# Altium footprint library Thunder-Refix.PcbLib: 28 footprints (part 1 of 2)
Each footprint in its own frame and in the unit in brackets; x right, y up, seen from the top. Pads: shape width x height; smd on the part's side, far side on the other; paste and mask are expansions set on the pad; w line width, h text height; cw(c..) or ccw(c..) is an arc to the next point about the centre after c.
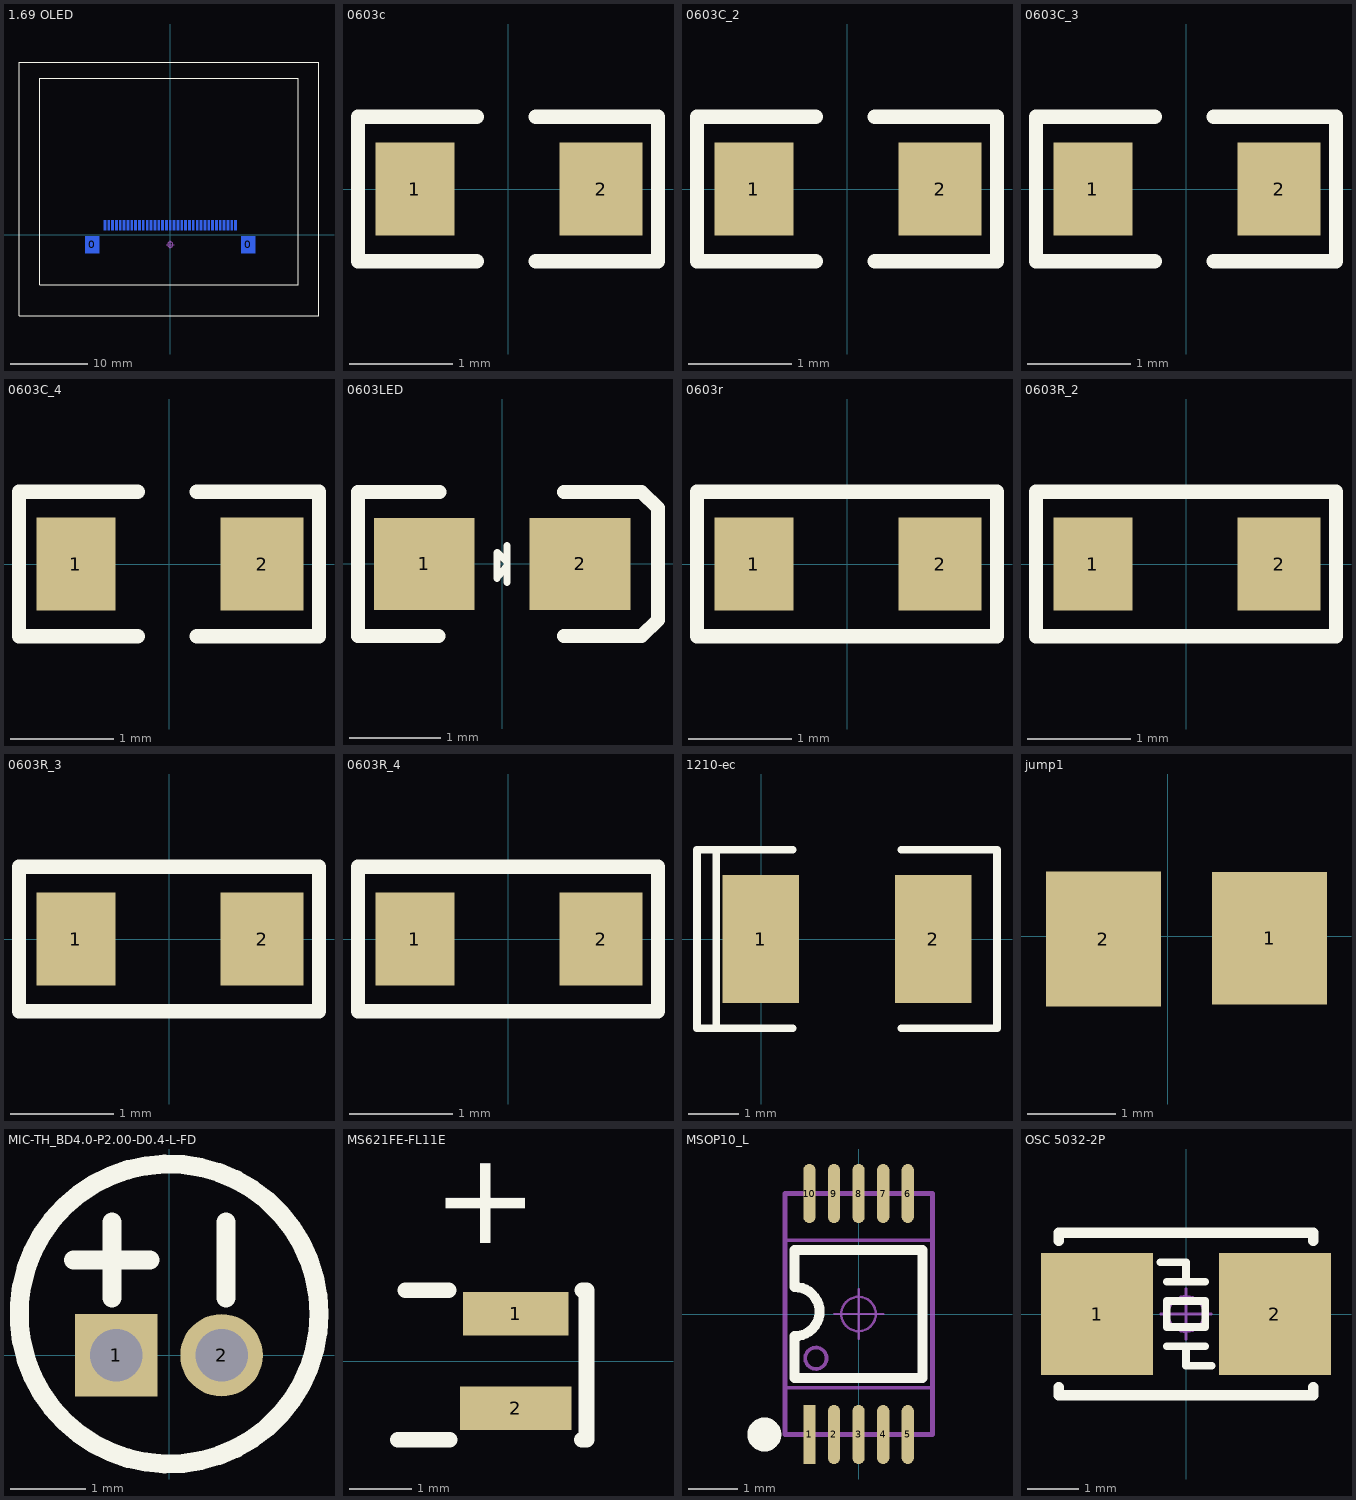
[diagram p0: the footprints below, top view; thin cyan lines are the x and y axes]

## 1.69 OLED [mm]
height 1
pads (37):
  rect 1.8x2.2 smd far side: 0(-10.15,-1.248) 0(10.15,-1.248)
  rect 0.3x1.3 smd far side: 1(-8.5,1.248) 2(-8,1.248) 3(-7.5,1.248) 4(-7,1.248) 5(-6.5,1.248) 6(-6,1.248) 7(-5.5,1.248) 8(-5,1.248) 9(-4.5,1.248) 10(-4,1.248) 11(-3.5,1.248) 12(-3,1.248) 13(-2.5,1.248) 14(-2,1.248) 15(-1.5,1.248) 16(-1,1.248) 17(-0.5,1.248) 18(0,1.248) 19(0.5,1.248) 20(1,1.248) 21(1.5,1.248) 22(2,1.248) 23(2.5,1.248) 24(3,1.248) 25(3.5,1.248) 26(4,1.248) 27(4.5,1.248) 28(5,1.248) 29(5.5,1.248) 30(6,1.248) 31(6.5,1.248) 32(7,1.248) 33(7.5,1.248) 34(8,1.248) 35(8.5,1.248)
Top Overlay:
  lines w0.152: -19.664,-10.522 19.336,-10.522 19.336,22.478 -19.664,22.478 -19.664,-10.522 ; -16.954,-6.478 -16.954,20.386 16.626,20.386 16.626,-6.478 -16.954,-6.478
Bottom Overlay:
  circle w0.5: c-9.334,1.93 r0.18
  lines w0.2: -10.925,-2.518 -10.925,-4.55 10.925,-4.55 10.925,-2.518 ; -10.925,0.022 -10.925,0.911 -8.893,0.911 ; 8.893,0.911 10.925,0.911 10.925,0.022
Mechanical 15:
  circle w0.05: c0,-1.248 r0.35
  lines w0.05: -0.5,-1.248 0.5,-1.248 ; 0,-1.748 0,-0.748
3D body "FPC0.5 2H-S-W-35P.STEP": height 2, standoff -0.01, extent -10.85,-4.398 10.85,1.602

## 0603c [mm]
height 1
pads (2):
  rect 0.762x0.9 smd: 1(-0.9,0)
  rect 0.8x0.9 smd: 2(0.9,0)
Top Overlay:
  lines w0.14: -0.3,-0.7 -1.45,-0.7 -1.45,0.7 -0.3,0.7 ; 0.266,-0.7 1.45,-0.7 1.45,0.7 0.266,0.7
3D body "User Library-0603 SMD Capacitor.STEP": height 0.3, standoff 0, extent -0.8,-0.4 0.8,0.4

## 0603C_2 [mm]
pads (2):
  rect 0.762x0.9 smd: 1(-0.9,0)
  rect 0.8x0.9 smd: 2(0.9,0)
Top Overlay:
  lines w0.14: -0.3,-0.7 -1.45,-0.7 -1.45,0.7 -0.3,0.7 ; 0.266,-0.7 1.45,-0.7 1.45,0.7 0.266,0.7
3D body "User Library-0603 SMD Capacitor.STEP": height 0.3, standoff 0, extent -0.8,-0.4 0.8,0.4

## 0603C_3 [mm]
pads (2):
  rect 0.762x0.9 smd: 1(-0.9,0)
  rect 0.8x0.9 smd: 2(0.9,0)
Top Overlay:
  lines w0.14: -0.3,-0.7 -1.45,-0.7 -1.45,0.7 -0.3,0.7 ; 0.266,-0.7 1.45,-0.7 1.45,0.7 0.266,0.7
3D body "User Library-0603 SMD Capacitor.STEP": height 0.3, standoff 0, extent -0.8,-0.4 0.8,0.4

## 0603C_4 [mm]
pads (2):
  rect 0.762x0.9 smd: 1(-0.9,0)
  rect 0.8x0.9 smd: 2(0.9,0)
Top Overlay:
  lines w0.14: -0.3,-0.7 -1.45,-0.7 -1.45,0.7 -0.3,0.7 ; 0.266,-0.7 1.45,-0.7 1.45,0.7 0.266,0.7
3D body "User Library-0603 SMD Capacitor.STEP": height 0.3, standoff 0, extent -0.8,-0.4 0.8,0.4

## 0603LED [mm]
height 1.524
pads (2):
  rect 1.1x1 smd: 1(-0.85,0) 2(0.85,0)
Top Overlay:
  lines w0.076: -0.057,0.125 -0.057,-0.156 0.041,-0.033 ; -0.051,0.125 0.048,0.026 ; 0.051,-0.203 0.051,0.203
  lines w0.152: -0.693,-0.787 -1.575,-0.787 -1.575,0.787 -0.686,0.787 ; 0.672,-0.787 1.524,-0.787 1.702,-0.61 1.702,0.61 1.524,0.787 0.672,0.787
3D body "User Library-led_0805.STEP": height 1.1, standoff 0, extent -1.01,-0.625 1.01,0.625

## 0603r [mm]
height 1
pads (2):
  rect 0.762x0.9 smd: 1(-0.9,0)
  rect 0.8x0.9 smd: 2(0.9,0)
Top Overlay:
  lines w0.14: -1.45,-0.7 1.45,-0.7 1.45,0.7 -1.45,0.7 -1.45,-0.7
3D body "User Library-RES_1609-0603.STEP": height 0.56, standoff 0, extent -0.85,-0.4 0.85,0.4

## 0603R_2 [mm]
pads (2):
  rect 0.762x0.9 smd: 1(-0.9,0)
  rect 0.8x0.9 smd: 2(0.9,0)
Top Overlay:
  lines w0.14: -1.45,-0.7 1.45,-0.7 1.45,0.7 -1.45,0.7 -1.45,-0.7
3D body "User Library-RES_1609-0603.STEP": height 0.56, standoff 0, extent -0.85,-0.4 0.85,0.4

## 0603R_3 [mm]
pads (2):
  rect 0.762x0.9 smd: 1(-0.9,0)
  rect 0.8x0.9 smd: 2(0.9,0)
Top Overlay:
  lines w0.14: -1.45,-0.7 1.45,-0.7 1.45,0.7 -1.45,0.7 -1.45,-0.7
3D body "User Library-RES_1609-0603.STEP": height 0.56, standoff 0, extent -0.85,-0.4 0.85,0.4

## 0603R_4 [mm]
pads (2):
  rect 0.762x0.9 smd: 1(-0.9,0)
  rect 0.8x0.9 smd: 2(0.9,0)
Top Overlay:
  lines w0.14: -1.45,-0.7 -1.45,0.7 1.45,0.7 1.45,-0.7 -1.45,-0.7
3D body "User Library-RES_1609-0603.STEP": height 0.56, standoff 0, extent -0.85,-0.4 0.85,0.4

## 1210-ec [mil]
pads (2):
  rect 60x100 smd: 1(-0.2,0.32) 2(134.8,0.32)
Top Overlay:
  lines w5.91: -35.24,-69.64 -35.24,69.06 ; 24.8,-69.68 -50.2,-69.68 -50.2,70.32 24.8,70.32 ; 109.8,-69.68 184.8,-69.68 184.8,70.32 109.8,70.32
3D body "User Library-cap_b.step": height -16.93, standoff -92.13, extent -1.45,-54.8 136.05,55.44

## jump1 [mm]
height 1
pads (2):
  rect 1.3x1.5 smd: 1(1.15,-0.023)
  rect 1.3x1.524 smd: 2(-0.73,-0.03)

## MIC-TH_BD4.0-P2.00-D0.4-L-FD [mm]
height 1
pads (2):
  rect 1.1x1.1 hole 0.7: 1(-0.7,0)
  round 1.1 hole 0.7: 2(0.7,0)
Top Overlay:
  circle w0.254: c0,0.55 r2
  lines w0.254: -1.27,1.27 -0.254,1.27 ; -0.762,0.762 -0.762,1.778 ; 0.762,0.762 0.762,1.778

## MS621FE-FL11E [mm]
height 1
pads (2):
  rect 1.7x0.7 smd: 1(3.605,0.762)
  rect 1.8x0.7 smd: 2(3.605,-0.762)
Top Overlay:
  lines w0.254: 1.7,-1.27 2.537,-1.27 ; 1.827,1.143 2.523,1.143 2.526,1.143 ; 4.673,-1.27 4.748,-1.27 4.748,1.143 4.684,1.143
  text "+" at 3.761,1.68 h1.5

## MSOP10_L [mm] "塑封体长3mm，宽3mm，脚距0.5"
pads (10):
  rect 0.25x1.2 smd: 1(-1,-2.45)
  oval 0.25x1.2 smd: 2(-0.5,-2.45) 3(0,-2.45) 4(0.5,-2.45) 5(1,-2.45) 6(1,2.45) 7(0.5,2.45) 8(0,2.45) 9(-0.5,2.45) 10(-1,2.45)
Top Overlay:
  circle w0.381: c-1.917,-2.45 r0.155
  lines w0.2: -1.3,-1.3 1.3,-1.3 1.3,1.3 -1.3,1.3
  lines w0.203: -1.3,-1.3 -1.3,-0.46 ; -1.3,-0.45 ccw(c-1.3,0.058) -0.792,0.058 ; -1.3,0.55 cw(c-1.3,0.042) -0.792,0.042 ; -1.3,0.556 -1.3,1.3
Mechanical 13:
  circle w0.076: c-0.867,-0.9 r0.217
  lines w0.076: -1.5,-1.5 1.5,-1.5 1.5,1.5 -1.5,1.5 -1.5,-1.5
Mechanical 15:
  circle w0.05: c0,0 r0.35
  lines w0.05: -0.5,0 0.5,0 ; 0,-0.5 0,0.5
  lines w0.1: -1.5,-2.45 -1.5,2.45 1.5,2.45 1.5,-2.45 -1.5,-2.45
3D body "MSOP-10.STEP": height 0.95, standoff 0, extent -1.5,-2.45 1.5,2.45

## OSC 5032-2P [mm] "5mm*3.2mm*0.8mm(长*宽*高)"
pads (2):
  rect 2.2x2.4 smd: 1(-1.75,0) 2(1.75,0)
Top Overlay:
  lines w0.152: -0.508,1.016 0,1.016 0,0.635 ; -0.381,-0.635 0.381,-0.635 ; -0.381,0.635 0.381,0.635 ; 0,-0.635 0,-1.016 0.381,-1.016 0.508,-1.016 ; -0.381,-0.254 0.381,-0.254 0.381,0.254 -0.381,0.254 -0.381,-0.254
  lines w0.203: -2.5,-1.437 -2.5,-1.6 2.5,-1.6 2.5,-1.437 ; -2.5,1.437 -2.5,1.6 2.5,1.6 2.5,1.437
Mechanical 15:
  circle w0.05: c0,0 r0.35
  lines w0.05: -0.5,0 0.5,0 ; 0,-0.5 0,0.5
3D body "OSC 5032-2.STEP": height 0.86, standoff 0.04, extent -2.5,-1.6 2.5,1.6